# Altium footprint library PcbLib_Arduino_nano.PcbLib: 19 footprints (part 2 of 2)
Each footprint in its own frame and in the unit in brackets; x right, y up, seen from the top. Pads: shape width x height; smd on the part's side, far side on the other; paste and mask are expansions set on the pad; w line width, h text height; cw(c..) or ccw(c..) is an arc to the next point about the centre after c.
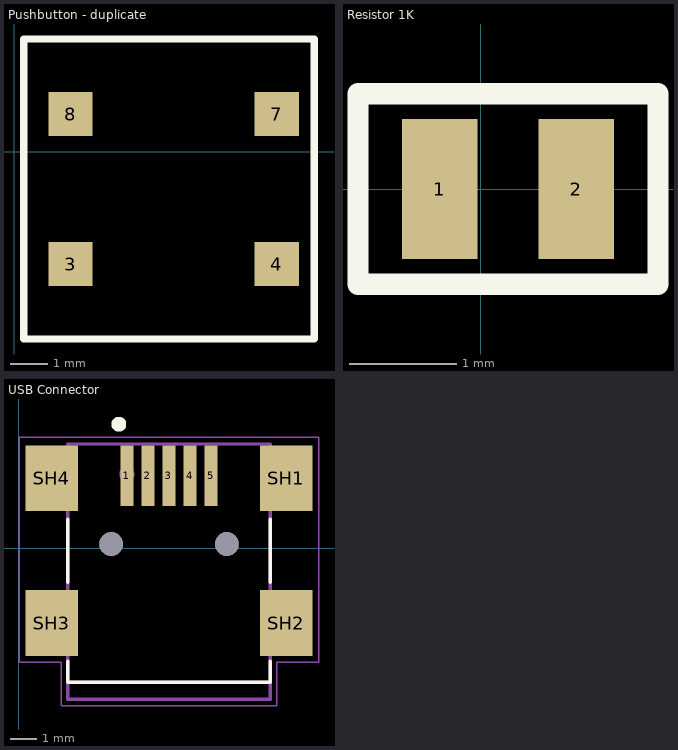
[diagram p1: the footprints below, top view; thin cyan lines are the x and y axes]

## Pushbutton - duplicate [mm]
pads (4):
  rect 1.2x1.2 smd: 3(1.524,-3.048) 4(7.112,-3.048) 7(7.112,1.016) 8(1.524,1.016)
Top Overlay:
  lines w0.2: 0.254,-5.08 8.128,-5.08 8.128,3.048 0.254,3.048 0.254,-5.08
3D body "skra_l6-8_w6-2_h3-4.stp": height 3.4, standoff -0.1, extent 1.118,-4.387 7.518,2.356

## Resistor 1K [mm]
pads (2):
  rect 0.7x1.3 smd: 1(-0.381,0) 2(0.889,0)
Top Overlay:
  lines w0.2: -1.143,-0.889 -1.143,0.889 1.651,0.889 1.651,-0.889 -1.143,-0.889
3D body "rsmd-0805_l2_w1-25_h0-6.stp": height 0.6, standoff 0, extent -0.746,-0.625 1.254,0.625

## USB Connector [mm]
pads (11):
  rect 0.5x2.3 smd: 1(4.115,2.761) 2(4.915,2.761) 3(5.715,2.761) 4(6.515,2.761) 5(7.315,2.761)
  rect 2x2.5 smd: SH1(10.165,2.661) SH2(10.165,-2.839) SH3(1.265,-2.839) SH4(1.265,2.661)
  round 0.9 hole 0.9 unplated: ""(3.515,0.161) ""(7.915,0.161)
Top Overlay:
  circle w0.4: c3.81,4.716 r0.08
  lines w0.127: 1.865,-4.289 1.865,-5.089 9.565,-5.089 9.565,-4.289 ; 1.865,-1.289 1.865,1.111 ; 9.565,-1.289 9.565,1.111
Mechanical 13:
  circle w0.4: c4.115,2.811 r0.08
  lines w0.127: 1.865,-5.089 9.565,-5.089 ; 1.865,-5.089 1.865,3.961 9.565,3.961 9.565,-5.089 ; 1.865,-5.089 1.865,-5.739 9.565,-5.739 9.565,-5.089
  text "PCB EDGE" at 4.015,-4.989 h0.61
Mechanical 15:
  lines w0.05: 0.015,-4.339 0.015,4.211 11.415,4.211 11.415,-4.339 9.815,-4.339 9.815,-5.989 1.615,-5.989 1.615,-4.339 0.015,-4.339
3D body "1734035-3.stp": height 2.14, standoff -2.95, extent 0.768,-5.362 10.668,3.838